# Altium schematic symbol library SCH - POWER - SWITCHMODE - TI TPS65191_RHB_32.SchLib: 1 symbol
Pins are listed as number, name and electrical type; pins without a type are passive.

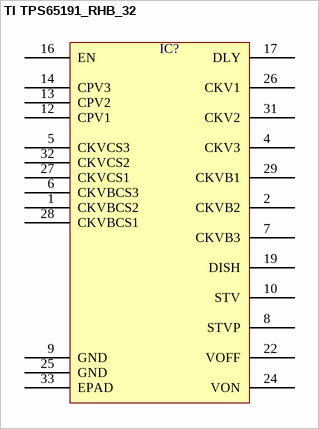
[diagram p0: symbol TI TPS65191_RHB_32]

## TI TPS65191_RHB_32
designator IC?  (value not drawn)
pins: 1 CKVBCS2, 2 CKVB2, 4 CKV3, 5 CKVCS3, 6 CKVBCS3, 7 CKVB3, 8 STVP, 9 GND, 10 STV, 12 CPV1, 13 CPV2, 14 CPV3, 16 EN, 17 DLY, 19 DISH, 22 VOFF, 24 VON, 25 GND, 26 CKV1, 27 CKVCS1, 28 CKVBCS1, 29 CKVB1, 31 CKV2, 32 CKVCS2, 33 EPAD